# Altium schematic symbol library Schlib1.SchLib: 3 symbols
Pins are listed as number, name and electrical type; pins without a type are passive.

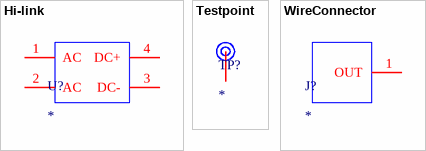
[diagram p0: symbols Hi-link to WireConnector]

## Hi-link
designator U?
Hi-Link HLK-20M05 220VAC to 5VDC 20W Step-Down Power Supply Module
footprint Hi-Link
pins: 1 AC, 2 AC, 3 DC-, 4 DC+

## Testpoint
designator TP?
footprint Testpad
footprint Testhole
pins: 1

## WireConnector
designator J?
footprint WireConnector
pins: 1 OUT